# EAGLE library part JN5139SHIELD (library jennic)
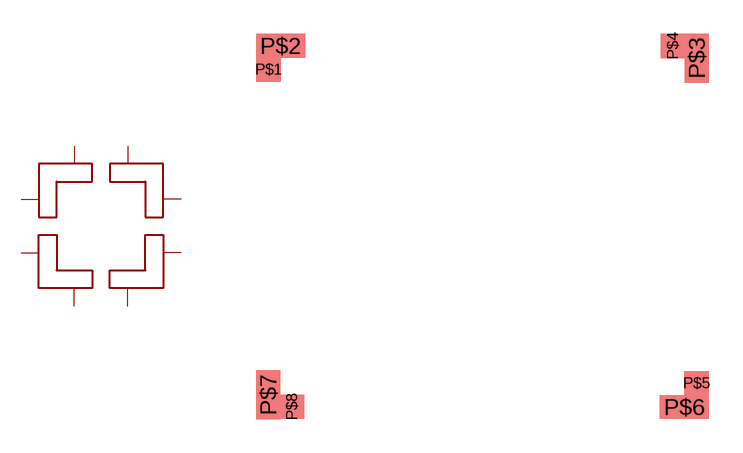
[diagram p3: symbol with the pads of 5139-SHIELD; footprint 5139-SHIELD]

Designator prefix -

## JN5139SHIELD  [5139-SHIELD]
P$1  P$1
P$2  P$2
P$3  P$3
P$4  P$4
P$5  P$5
P$6  P$6
P$7  P$7
P$8  P$8

## Footprint 5139-SHIELD (pad centres in mm)
smd 1.092 x 1.067: P$1 -9.429,7.472; P$5 9.671,-6.528
smd 2.184 x 1.067: P$2 -8.892,8.534; P$6 9.134,-7.59
smd 1.067 x 2.184: P$3 9.684,7.985; P$7 -9.441,-7.041
smd 1.067 x 1.092: P$4 8.621,8.522; P$8 -8.379,-7.578